# Altium schematic symbol library NAND_BGA.Schlib: 1 symbol
Pins are listed as number, name and electrical type; pins without a type are passive.

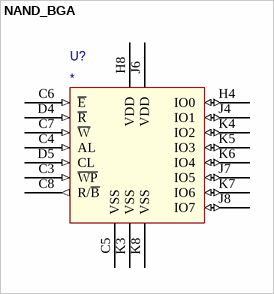
[diagram p0: symbol NAND_BGA]

## NAND_BGA
designator U?
pins: A1 DU hidden, A2 DU hidden, A9 DU hidden, A10 DU hidden, B1 DU hidden, B9 DU hidden, B10 DU hidden, C3 ~{WP} (in), C4 AL (in), C5 VSS (power), C6 ~{E} (in), C7 ~{W} (in), C8 R/~{B} (out), D3 NC hidden, D4 ~{R} (in), D5 CL (in), D6 NC hidden, D7 NC hidden, D8 NC hidden, E3 NC hidden, E4 NC hidden, E5 NC hidden, E6 NC hidden, E7 NC hidden, E8 NC hidden, F3 NC hidden, F4 NC hidden, F5 NC hidden, F6 NC hidden, F7 NC hidden, F8 NC hidden, G3 NC hidden, G4 NC hidden, G5 NC hidden, G6 NC hidden, G7 NC hidden, G8 NC hidden, H3 NC hidden, H4 IO0 (io), H5 NC hidden, H6 NC hidden, H7 NC hidden, H8 VDD (power), J3 NC hidden, J4 IO1 (io), J5 NC hidden, J6 VDD (power), J7 IO5 (io), J8 IO7 (io), K3 VSS (power), K4 IO2 (io), K5 IO3 (io), K6 IO4 (io), K7 IO6 (io), K8 VSS (power), L1 DU hidden, L2 DU hidden, L9 DU hidden, L10 DU hidden, M1 DU hidden, M2 DU hidden, M9 DU hidden, M10 DU hidden